# EAGLE library part DF3-07 (library con-hirose)
Single row connector 2mm 7 way
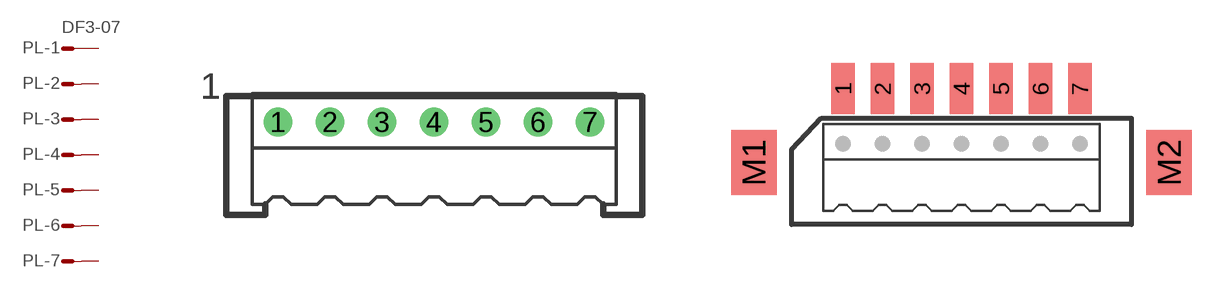
[diagram p3: symbol with the pads of DF3P-07; footprints DF3P-07, DF3DZ-07]

Designator prefix PL; gates -1=MV -2=M -3=M -4=M -5=M -6=M -7=M

## DF3-07P  [DF3P-07]
1  -1:S  pas
2  -2:S  pas
3  -3:S  pas
4  -4:S  pas
5  -5:S  pas
6  -6:S  pas
7  -7:S  pas

## DF3-07DZ  [DF3DZ-07]
Pads as for DF3P-07

## DF3-07R  [DF3R-07]
Pads as for DF3P-07

## Footprint DF3P-07 (pad centres in mm)
Single row connector 2mm 7 way
drill 0.6 round: 1 -6,1; 2 -4,1; 3 -2,1; 4 0,1; 5 2,1; 6 4,1; 7 6,1

## Footprint DF3DZ-07 (pad centres in mm)
Single row SMT connector 2mm 7 way
smd 1.2 x 2.6: 1 -6,4.1; 2 -4,4.1; 3 -2,4.1; 4 0,4.1; 5 2,4.1; 6 4,4.1; 7 6,4.1
smd 2.3 x 3.3: M1 -10.52,0.35; M2 10.52,0.35

## Footprint DF3R-07 (pad centres in mm)
Single row connector 2mm 7 way
drill 0.6 round: 1 -6,1.8; 2 -4,1.8; 3 -2,1.8; 4 0,1.8; 5 2,1.8; 6 4,1.8; 7 6,1.8